# EAGLE library part XT09-SI (library autobuoy)
Digi MaxStream 9XTend 900MHz OEM Module XT09-SI, with low-profile SMT header
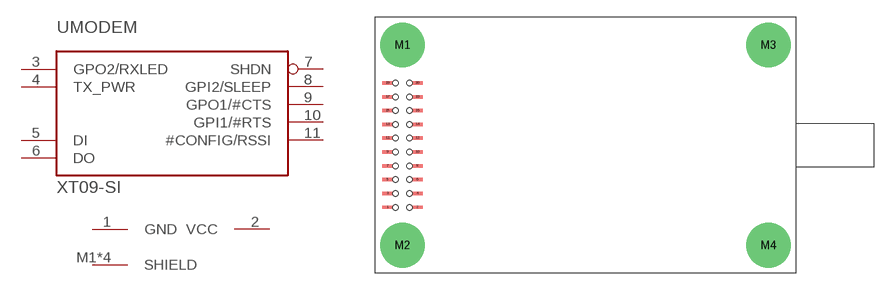
[diagram p0: symbol with the pads of XT09-SI; footprint XT09-SI]

Designator prefix -; gates MODEM=XT09-SI SUPPLY=SUPPLY G$1=SHIELD

## XT09-SI  [XT09-SI]
1  SUPPLY:GND  pwr
2  SUPPLY:VCC  pwr
3  MODEM:GPO2/RXLED  out
4  MODEM:TX_PWR  out
5  MODEM:DI  in
6  MODEM:DO  out
7  MODEM:SHDN  in
8  MODEM:GPI2/SLEEP  in
9  MODEM:GPO1/#CTS  out
10  MODEM:GPI1/#RTS  in
11  MODEM:#CONFIG/RSSI
M1  G$1:SHIELD  pwr
M2  G$1:SHIELD  pwr
M3  G$1:SHIELD  pwr
M4  G$1:SHIELD  pwr

## Footprint XT09-SI (pad centres in mm)
Digi MaxStream 9XTend 900 MHz OEM Module XT09-SI, with low-profile SMT header
smd 1.5 x 0.5: 1 1.85,9.5; 2 6.15,9.5; 3 1.85,11.5; 4 6.15,11.5; 5 1.85,13.5; 6 6.15,13.5; 7 1.85,15.5; 8 6.15,15.5; 9 1.85,17.5; 10 6.15,17.5; 11 1.85,19.5; 12 6.15,19.5; 13 1.85,21.5; 14 6.15,21.5; 15 1.85,23.5; 16 6.15,23.5; 17 1.85,25.5; 18 6.15,25.5; 19 1.85,27.5; 20 6.15,27.5
drill 3.3 pad 6.5: M1 4,33; M2 4,4; M3 57,33; M4 57,4
hole 0.8 at 3,9.5
hole 0.8 at 5,9.5
hole 0.8 at 3,11.5
hole 0.8 at 5,11.5
hole 0.8 at 3,13.5
hole 0.8 at 5,13.5
hole 0.8 at 3,15.5
hole 0.8 at 5,15.5
hole 0.8 at 3,17.5
hole 0.8 at 5,17.5
hole 0.8 at 3,19.5
hole 0.8 at 5,19.5
hole 0.8 at 3,21.5
hole 0.8 at 5,21.5
hole 0.8 at 3,23.5
hole 0.8 at 5,23.5
hole 0.8 at 3,25.5
hole 0.8 at 5,25.5
hole 0.8 at 3,27.5
hole 0.8 at 5,27.5